# Altium footprint library STM32.PcbLib: 29 footprints (part 1 of 2)
Each footprint in its own frame and in the unit in brackets; x right, y up, seen from the top. Pads: shape width x height; smd on the part's side, far side on the other; paste and mask are expansions set on the pad; w line width, h text height; cw(c..) or ccw(c..) is an arc to the next point about the centre after c.
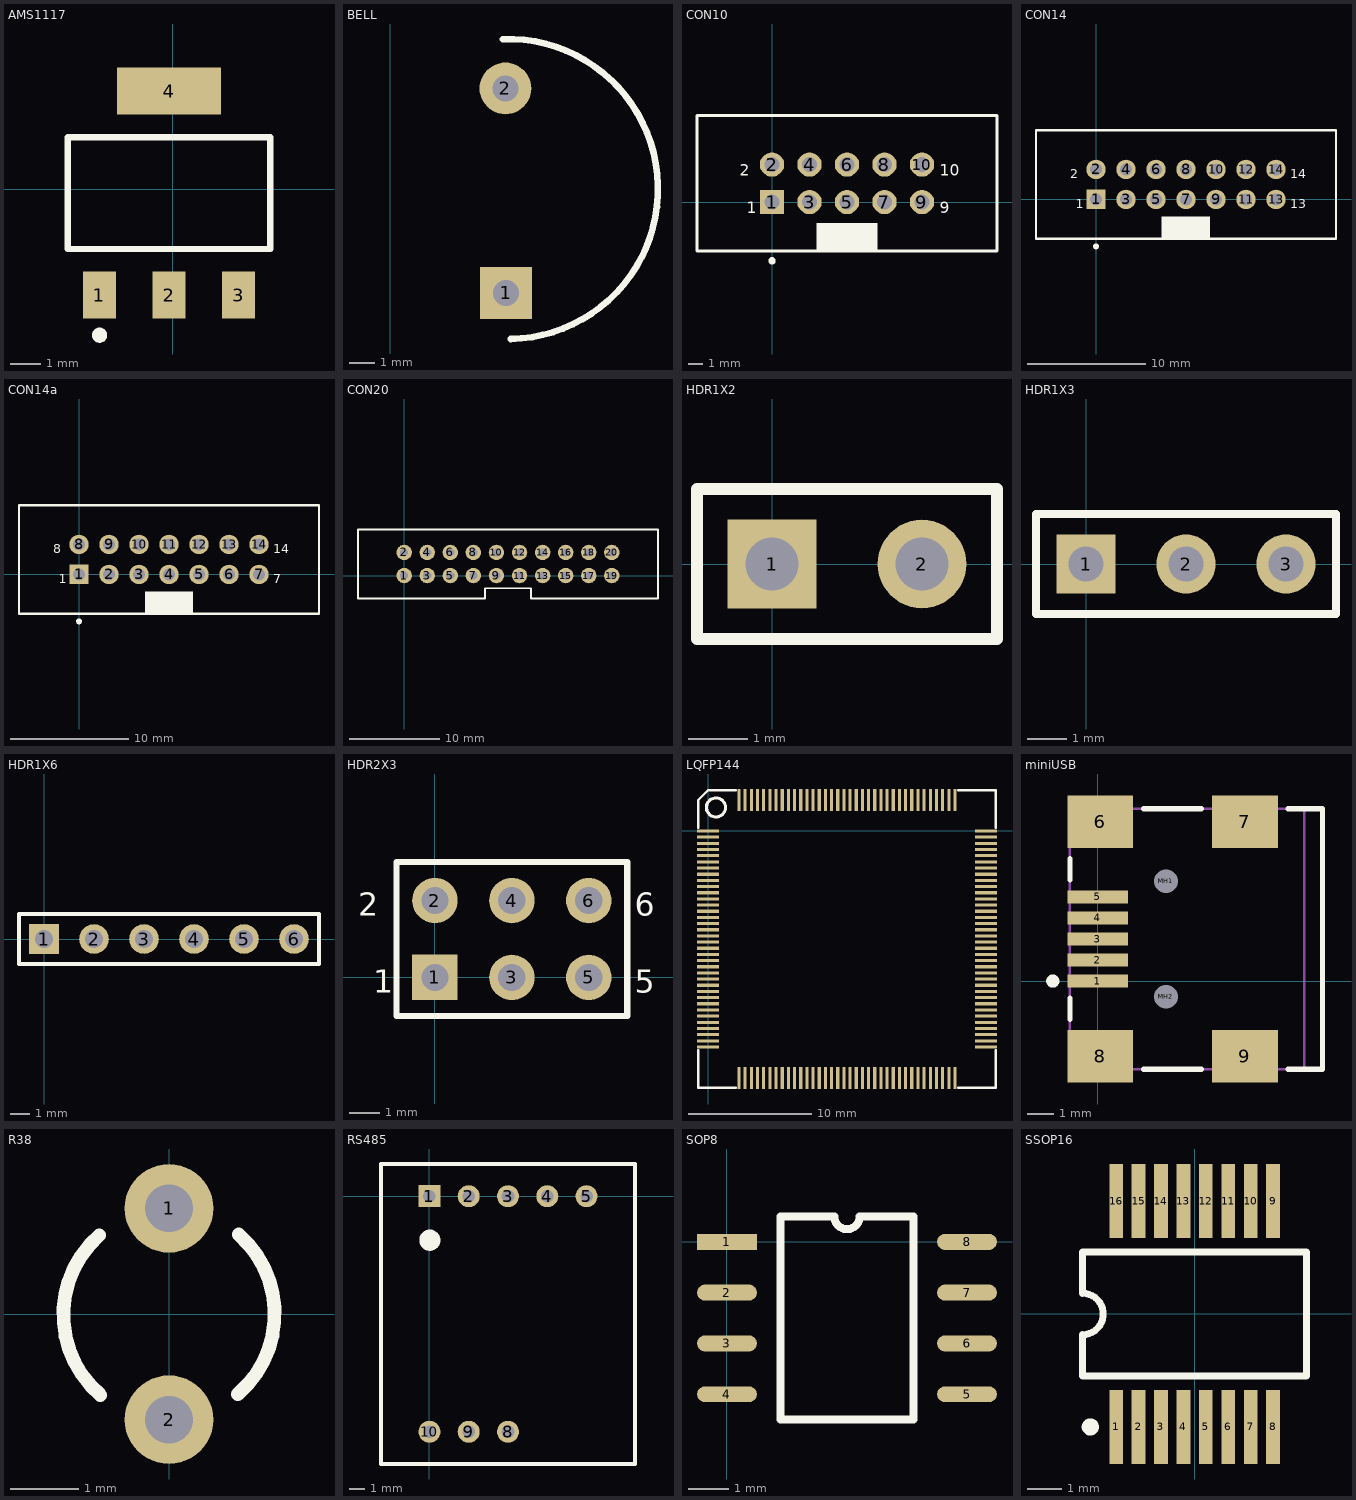
[diagram p0: the footprints below, top view; thin cyan lines are the x and y axes]

## AMS1117 [mm] "AMS1117"
pads (4):
  rect 1.1x1.55 smd: 1(-2.427,-3.502) 2(-0.127,-3.502) 3(2.173,-3.502)
  rect 3.45x1.55 smd: 4(-0.127,3.248)
Top Overlay:
  circle w0.25: c-2.427,-4.827 r0.125
  lines w0.2: -3.477,-1.977 3.223,-1.977 3.223,1.723 -3.477,1.723 -3.477,-1.977

## BELL [mm]
pads (2):
  rect 2x2 hole 1: 1(4.47,-21.488)
  round 2 hole 1: 2(4.445,-13.589)
Top Overlay:
  lines w0.254: 4.349,-11.686 cw(c4.547,-17.475) 4.648,-23.266

## CON10 [mm]
pads (10):
  rect 1.65x1.65 hole 1: 1(0,0)
  round 1.65 hole 1: 2(0,2.54) 3(2.54,0) 4(2.54,2.54) 5(5.08,0) 6(5.08,2.54) 7(7.62,0) 8(7.62,2.54) 9(10.16,0) 10(10.16,2.54)
Top Overlay:
  circle w0.25: c0,-3.98 r0.125
  rectangle: 3.03,-3.334 7.13,-1.434
  lines w0.2: -5.08,-3.33 -5.08,5.87 15.24,5.87 15.24,-3.33 -5.08,-3.33
  text "2" at -2.2,1.79 h0.76
  text "1" at -1.7,-0.75 h0.76
  text "10" at 11.36,1.79 h0.76
  text "9" at 11.36,-0.75 h0.76
Mechanical 13:
  lines w0.1: -5.08,-3.33 15.24,-3.33 15.24,5.87 -5.08,5.87 -5.08,-3.33
3D body: height 9.45, standoff 0, extent -5.08,-3.33 15.24,5.87

## CON14 [mm]
pads (14):
  rect 1.65x1.65 hole 1: 1(0,0)
  round 1.65 hole 1: 2(0,2.54) 3(2.54,0) 4(2.54,2.54) 5(5.08,0) 6(5.08,2.54) 7(7.62,0) 8(7.62,2.54) 9(10.16,0) 10(10.16,2.54) 11(12.7,0) 12(12.7,2.54) 13(15.24,0) 14(15.24,2.54)
Top Overlay:
  circle w0.25: c0,-3.98 r0.125
  rectangle: 5.566,-3.334 9.666,-1.434
  lines w0.2: -5.08,-3.33 20.32,-3.33 20.32,5.87 -5.08,5.87 -5.08,-3.33
  text "13" at 16.44,-0.75 h0.76
  text "14" at 16.44,1.79 h0.76
  text "1" at -1.7,-0.75 h0.76
  text "2" at -2.2,1.79 h0.76
Mechanical 13:
  lines w0.1: -5.08,-3.33 -5.08,5.87 20.32,5.87 20.32,-3.33 -5.08,-3.33
3D body: height 9.45, standoff 0, extent -5.08,-3.33 20.32,5.87

## CON14a [mm]
pads (14):
  rect 1.65x1.65 hole 1: 1(0,0)
  round 1.65 hole 1: 2(2.54,0) 3(5.08,0) 4(7.62,0) 5(10.16,0) 6(12.7,0) 7(15.24,0) 8(0,2.54) 9(2.54,2.54) 10(5.08,2.54) 11(7.62,2.54) 12(10.16,2.54) 13(12.7,2.54) 14(15.24,2.54)
Top Overlay:
  circle w0.25: c0,-3.98 r0.125
  rectangle: 5.57,-3.333 9.67,-1.433
  lines w0.2: -5.08,-3.33 20.32,-3.33 20.32,5.87 -5.08,5.87 -5.08,-3.33
  text "7" at 16.44,-0.75 h0.76
  text "14" at 16.44,1.79 h0.76
  text "1" at -1.7,-0.75 h0.76
  text "8" at -2.2,1.79 h0.76
Mechanical 13:
  lines w0.1: -5.08,-3.33 -5.08,5.87 20.32,5.87 20.32,-3.33 -5.08,-3.33
3D body: height 9.45, standoff 0, extent -5.08,-3.33 20.32,5.87

## CON20 [mm]
pads (20):
  round 1.7 hole 0.9: 1(0,0) 2(0,2.54) 3(2.54,0) 4(2.54,2.54) 5(5.08,0) 6(5.08,2.54) 7(7.62,0) 8(7.62,2.54) 9(10.16,0) 10(10.16,2.54) 11(12.7,0) 12(12.7,2.54) 13(15.24,0) 14(15.24,2.54) 15(17.78,0) 16(17.78,2.54) 17(20.32,0) 18(20.32,2.54) 19(22.86,0) 20(22.86,2.54)
Top Overlay:
  lines w0.203: -5.08,-2.54 -5.08,5.08 27.94,5.08 27.94,-2.54 13.97,-2.54 13.97,-1.397 8.89,-1.397 8.89,-2.54 -5.08,-2.54

## HDR1X2 [mm] "Connector; Header; 2 Position"
pads (2):
  rect 1.5x1.5 hole 0.9: 1(0,0)
  round 1.5 hole 0.9: 2(2.54,0)
Top Overlay:
  lines w0.2: -1.27,-1.27 3.81,-1.27 3.81,1.27 -1.27,1.27 -1.27,-1.27

## HDR1X3 [mm] "Connector; Header; 3 Position"
pads (3):
  rect 1.5x1.5 hole 0.9: 1(0,0)
  round 1.5 hole 0.9: 2(2.54,0) 3(5.08,0)
Top Overlay:
  lines w0.2: -1.27,-1.27 6.35,-1.27 6.35,1.27 -1.27,1.27 -1.27,-1.27

## HDR1X6 [mm] "Connector; Header; 6 Position"
pads (6):
  rect 1.5x1.5 hole 0.9: 1(0,0)
  round 1.5 hole 0.9: 2(2.54,0) 3(5.08,0) 4(7.62,0) 5(10.16,0) 6(12.7,0)
Top Overlay:
  lines w0.2: -1.27,-1.27 -1.27,1.27 13.97,1.27 13.97,-1.27 -1.27,-1.27

## HDR2X3 [mm] "Connector; Header; 3x2 Position"
pads (6):
  rect 1.5x1.5 hole 0.9: 1(0,0)
  round 1.5 hole 0.9: 2(0,2.54) 3(2.54,0) 4(2.54,2.54) 5(5.08,0) 6(5.08,2.54)
Top Overlay:
  lines w0.2: 1.482,-1.27 6.35,-1.27 ; 6.35,-1.27 6.35,3.81 -1.27,3.81 -1.27,-1.27 6.35,-1.27
  text "6" at 6.604,2.032 h0.76
  text "5" at 6.604,-0.508 h0.76
  text "2" at -2.54,2.032 h0.76
  text "1" at -2.032,-0.508 h0.76

## LQFP144 [mm]
pads (144):
  rect 1.8x0.254 smd: 1(0,0) 2(0,-0.5) 3(0,-1) 4(0,-1.5) 5(0,-2) 6(0,-2.5) 7(0,-3) 8(0,-3.5) 9(0,-4) 10(0,-4.5) 11(0,-5) 12(0,-5.5) 13(0,-6) 14(0,-6.5) 15(0,-7) 16(0,-7.5) 17(0,-8) 18(0,-8.5) 19(0,-9) 20(0,-9.5) 21(0,-10) 22(0,-10.5) 23(0,-11) 24(0,-11.5) 25(0,-12) 26(0,-12.5) 27(0,-13) 28(0,-13.5) 29(0,-14) 30(0,-14.5) 31(0,-15) 32(0,-15.5) 33(0,-16) 34(0,-16.5) 35(0,-17) 36(0,-17.5) 73(22.5,-17.5) 74(22.5,-17) 75(22.5,-16.5) 76(22.5,-16) 77(22.5,-15.5) 78(22.5,-15) 79(22.5,-14.5) 80(22.5,-14) 81(22.5,-13.5) 82(22.5,-13) 83(22.5,-12.5) 84(22.5,-12) 85(22.5,-11.5) 86(22.5,-11) 87(22.5,-10.5) 88(22.5,-10) 89(22.5,-9.5) 90(22.5,-9) 91(22.5,-8.5) 92(22.5,-8) 93(22.5,-7.5) 94(22.5,-7) 95(22.5,-6.5) 96(22.5,-6) 97(22.5,-5.5) 98(22.5,-5) 99(22.5,-4.5) 100(22.5,-4) 101(22.5,-3.5) 102(22.5,-3) 103(22.5,-2.5) 104(22.5,-2) 105(22.5,-1.5) 106(22.5,-1) 107(22.5,-0.5) 108(22.5,0)
  rect 0.254x1.8 smd: 37(2.5,-20) 38(3,-20) 39(3.5,-20) 40(4,-20) 41(4.5,-20) 42(5,-20) 43(5.5,-20) 44(6,-20) 45(6.5,-20) 46(7,-20) 47(7.5,-20) 48(8,-20) 49(8.5,-20) 50(9,-20) 51(9.5,-20) 52(10,-20) 53(10.5,-20) 54(11,-20) 55(11.5,-20) 56(12,-20) 57(12.5,-20) 58(13,-20) 59(13.5,-20) 60(14,-20) 61(14.5,-20) 62(15,-20) 63(15.5,-20) 64(16,-20) 65(16.5,-20) 66(17,-20) 67(17.5,-20) 68(18,-20) 69(18.5,-20) 70(19,-20) 71(19.5,-20) 72(20,-20) 109(20,2.5) 110(19.5,2.5) 111(19,2.5) 112(18.5,2.5) 113(18,2.5) 114(17.5,2.5) 115(17,2.5) 116(16.5,2.5) 117(16,2.5) 118(15.5,2.5) 119(15,2.5) 120(14.5,2.5) 121(14,2.5) 122(13.5,2.5) 123(13,2.5) 124(12.5,2.5) 125(12,2.5) 126(11.5,2.5) 127(11,2.5) 128(10.5,2.5) 129(10,2.5) 130(9.5,2.5) 131(9,2.5) 132(8.5,2.5) 133(8,2.5) 134(7.5,2.5) 135(7,2.5) 136(6.5,2.5) 137(6,2.5) 138(5.5,2.5) 139(5,2.5) 140(4.5,2.5) 141(4,2.5) 142(3.5,2.5) 143(3,2.5) 144(2.5,2.5)
Top Overlay:
  circle w0.254: c0.633,1.904 r0.773
  lines w0.2: -0.8,-17.75 -0.8,-20.8 2.25,-20.8 ; -0.8,0.25 -0.8,2.5 0,3.3 2.25,3.3 ; 20.25,-20.8 23.3,-20.8 23.3,-17.75 ; 20.25,3.3 23.3,3.3 23.3,0.25

## miniUSB [mm]
pads (11):
  rect 2.3x0.5 smd: 1(0,0) 2(0,0.8) 3(0,1.6) 4(0,2.4) 5(0,3.2)
  rect 2.5x2 smd: 6(0.1,6.05) 7(5.6,6.05) 8(0.1,-2.85) 9(5.6,-2.85)
  round 0.6 hole 0.9 unplated: MH1(2.6,3.8) MH2(2.6,-0.6)
Top Overlay:
  circle w0.25: c-1.7,0 r0.125
  lines w0.2: -1.05,-1.45 -1.05,-0.65 ; -1.05,3.85 -1.05,4.65 ; 1.75,-3.35 3.95,-3.35 ; 1.75,6.55 3.95,6.55 ; 7.25,-3.35 8.55,-3.35 8.55,6.55 7.25,6.55
Mechanical 1:
  lines w0.1: 7.85,-3.35 7.85,6.55
  text "PCB Edge" at 8.282,-2.436 h0.76
Mechanical 13:
  lines w0.1: -1.05,-3.35 -1.05,6.55 8.55,6.55 8.55,-3.35 -1.05,-3.35
3D body: height 3.9, standoff 0, extent -1.05,-3.35 8.55,6.55

## R38 [mm] "Crystal, Thru-Hole; 2 Leads; Body 3.1 x 8.2 mm (Dia.xH)"
height 8.2
pads (2):
  round 1.3 hole 0.7: 1(0,1.55) 2(0,-1.55)
Top Overlay:
  lines w0.2: -1.022,1.155 ccw(c0,-0.01) -1.006,-1.189 ; 1.006,-1.179 ccw(c0,0) 1.022,1.165

## RS485 [mil]
pads (8):
  rect 56x56 hole 32: 1(0,0)
  round 56 hole 32: 2(100,0) 3(200,0) 4(300,0) 5(400,0) 8(200,-600) 9(100,-600) 10(0,-600)
Top Overlay:
  circle w30: c1,-112 r12
  lines w10: -123,-682 523,-682 523,82 -123,82 -123,-682

## SOP8 [mm]
pads (8):
  rect 1.5x0.4 smd: 1(0,0)
  oval 1.5x0.4 smd: 2(0,-1.27) 3(0,-2.54) 4(0,-3.81) 5(6,-3.81) 6(6,-2.54) 7(6,-1.27) 8(6,0)
Top Overlay:
  lines w0.2: 1.335,-4.445 4.665,-4.445 4.665,0.635 3.317,0.635 cw(c3,0.635) 2.682,0.635 1.335,0.635 1.335,-4.445

## SSOP16 [mm] "SSOP; 16 Leads; Body Width 5.3 mm; Pitch 0.65 mm"
height 2
pads (16):
  rect 0.4x2.15 smd: 1(-2.275,-3.275) 2(-1.625,-3.275) 3(-0.975,-3.275) 4(-0.325,-3.275) 5(0.325,-3.275) 6(0.975,-3.275) 7(1.625,-3.275) 8(2.275,-3.275) 9(2.275,3.275) 10(1.625,3.275) 11(0.975,3.275) 12(0.325,3.275) 13(-0.325,3.275) 14(-0.975,3.275) 15(-1.625,3.275) 16(-2.275,3.275)
Top Overlay:
  circle w0.25: c-3.025,-3.275 r0.125
  lines w0.2: -3.25,-1.8 -3.25,-0.6 ccw(c-3.25,0) -3.25,0.6 -3.25,1.8 3.25,1.8 3.25,-1.8 -3.25,-1.8